# EAGLE library part ICS542 (library mes)
IDT ICS542 Clock Divider The ICS542 is cost effective way to produce a high-quality clock output divided from a clock input. The chip accepts a clock input up to 156 MHz at 3.3 V and produces a divide by 2, 4, 6, 8, 12, or 16 of the input clock. There are two outputs on the chip, one being a low-skew divide by two of the other. Datasheet: ICS542.pdf <http://www.datasheetcatalog.org/datasheet/icst/ICS542.pdf>
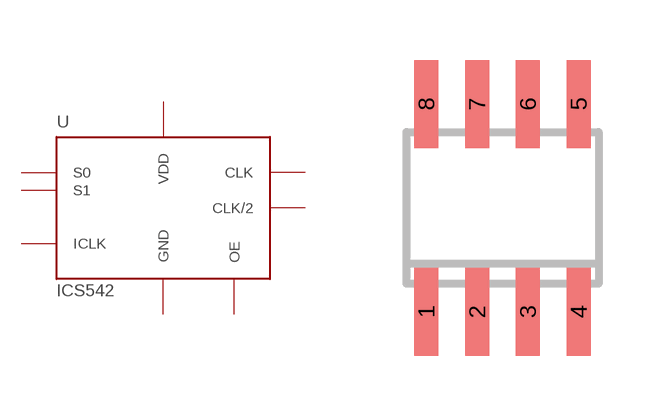
[diagram p5: symbol with the pads of SOIC8; footprint SOIC8]

Designator prefix -

## ICS542  [SOIC8]
1  ICLK
2  VDD  sup
3  GND  sup
4  S0
5  S1
6  OE
7  CLK/2
8  CLK

## Footprint SOIC8 (pad centres in mm)
Small Outline IC
smd 0.6 x 2.2: 1 -1.905,-2.6; 2 -0.635,-2.6; 3 0.635,-2.6; 4 1.905,-2.6; 5 1.905,2.6; 6 0.635,2.6; 7 -0.635,2.6; 8 -1.905,2.6